# EAGLE library part AP7312-1828W6-7 (library AP7312-1828W6-7)
DIODES INC. - AP7312-1828W6-7 - LDO Voltage Regulator IC, Fixed, 2 Output, 2 V to 6 V in, 150 mV drop, 150 mA out, SOT-26-6 Source: Datasheet <https://www.diodes.com/assets/Datasheets/products_inactive_data/AP7312.pdf>
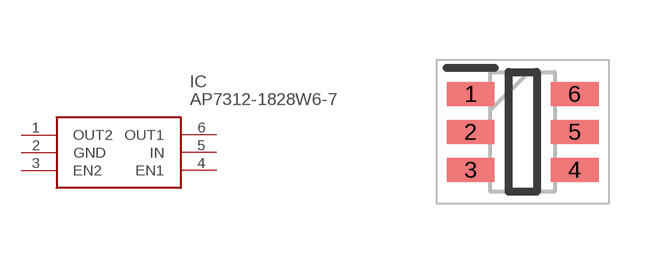
[diagram p0: symbol with the pads of SOT95P285X145-6N; footprint SOT95P285X145-6N]

Designator prefix IC

## AP7312-1828W6-7 (Arrow_Part_Number: AP7312-1828W6-7; Arrow_Price-Stock: https://www.arrow.com/en/products/ap7312-1828w6-7/diodes-incorporated?utm_currency=USD&region=nac; Description: DIODES INC. - AP7312-1828W6-7 - LDO Voltage Regulator IC, Fixed, 2 Output, 2 V to 6 V in, 150 mV drop, 150 mA out, SOT-26-6; Height: 1.45mm; Manufacturer_Name: Diodes Incorporated; Manufacturer_Part_Number: AP7312-1828W6-7; Mouser_Part_Number: 621-AP7312-1828W6-7; Mouser_Price-Stock: https://www.mouser.co.uk/ProductDetail/Diodes-Incorporated/AP7312-1828W6-7?qs=gfe7vQ8txpXIU2bwoIt1PQ%3D%3D)  [SOT95P285X145-6N]
1  OUT2
2  GND
3  EN2
4  EN1
5  IN
6  OUT1

## Footprint SOT95P285X145-6N (pad centres in mm)
SOT26-ren1
smd 1.2 x 0.6: 1 -1.3,0.95; 2 -1.3,0; 3 -1.3,-0.95; 4 1.3,-0.95; 5 1.3,0; 6 1.3,0.95